# Altium footprint library 600VDCDC.PcbLib: 39 footprints (part 1 of 3)
Each footprint in its own frame and in the unit in brackets; x right, y up, seen from the top. Pads: shape width x height; smd on the part's side, far side on the other; paste and mask are expansions set on the pad; w line width, h text height; cw(c..) or ccw(c..) is an arc to the next point about the centre after c.
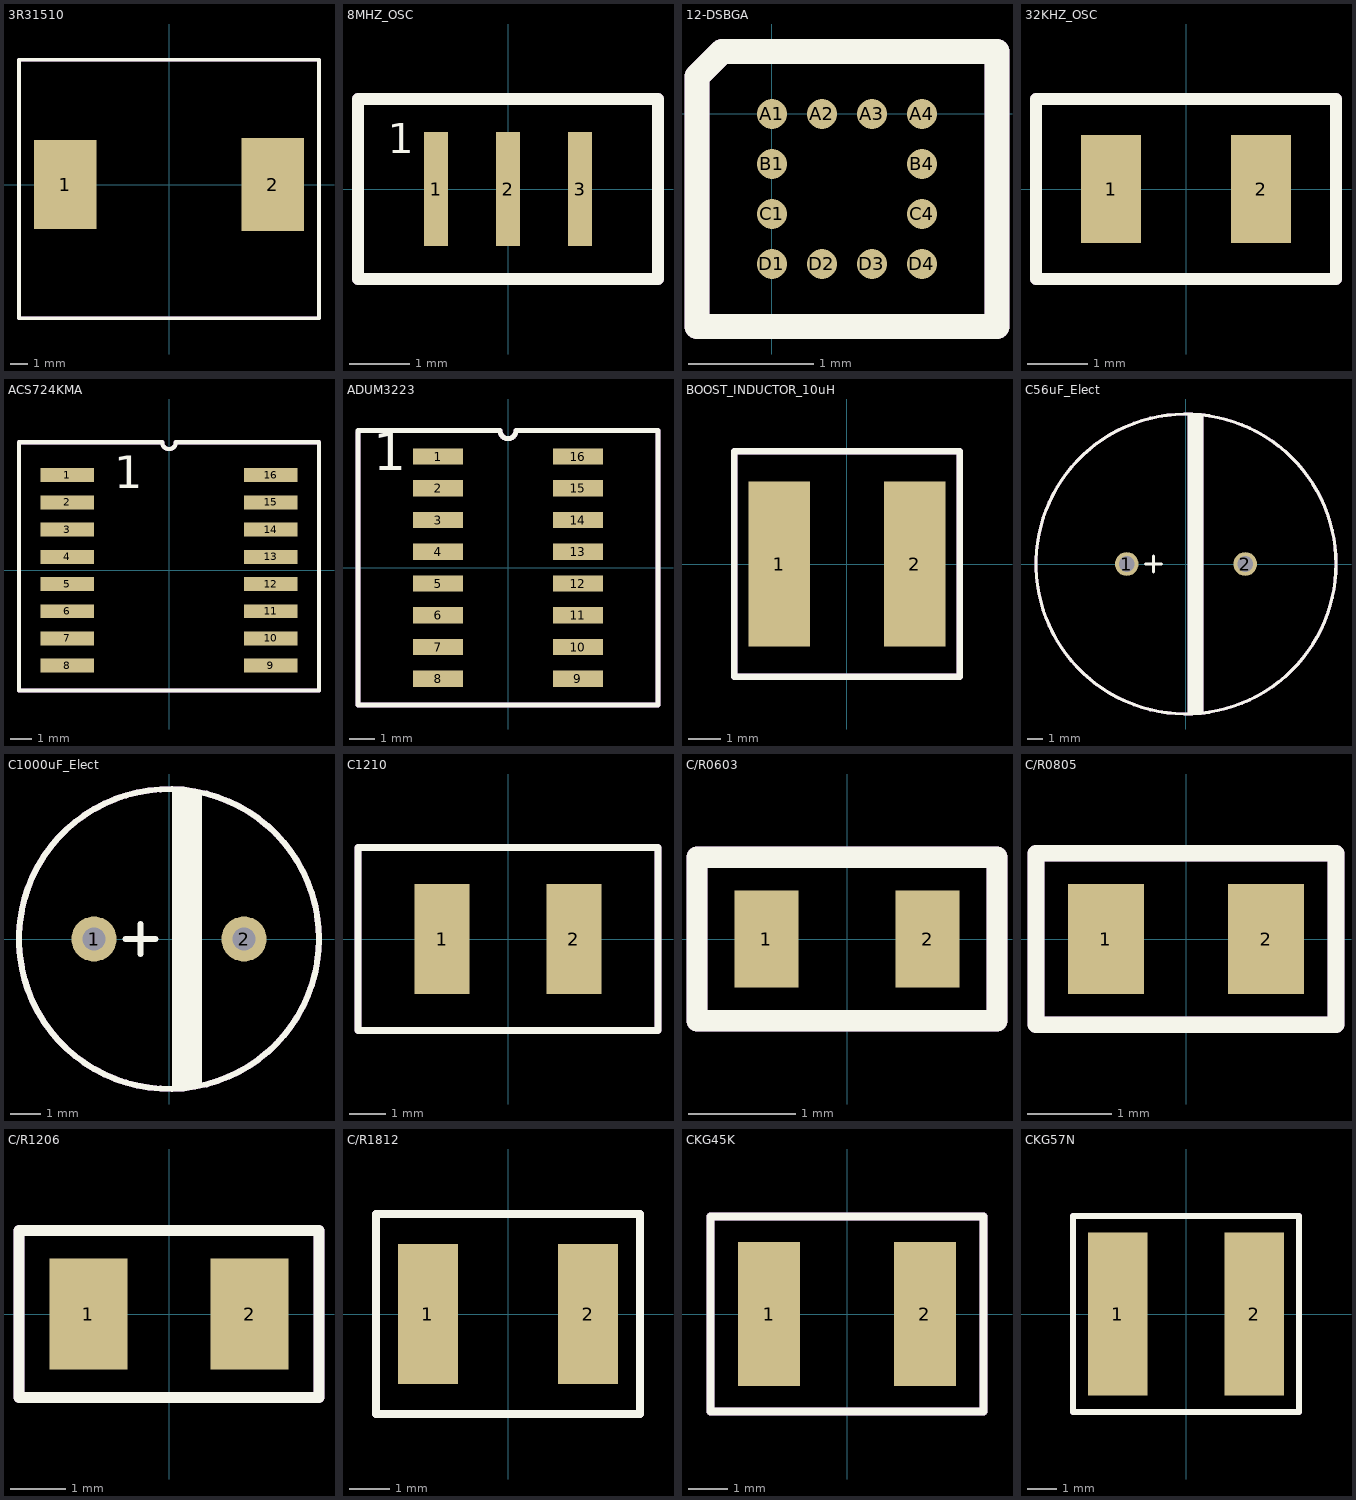
[diagram p0: the footprints below, top view; thin cyan lines are the x and y axes]

## 3R31510 [mm]
pads (2):
  rect 3.5x5 smd: 1(-5.8,0)
  rect 3.5x5.2 smd: 2(5.8,0)
Top Overlay:
  lines w0.2: -8.4,-7.5 -8.4,7 8.4,7 8.4,-7.5 -8.4,-7.5
Mechanical 29:
  lines w0.2: -8.4,-7.5 8.4,-7.5 8.4,7 -8.4,7 -8.4,-7.5
  text ".Designator" at -4.7,4.1 h1
3D body "SRP1265A series.stp": height 6.32, standoff 0.01, extent -6.4,-6.4 6.5,6.1

## 8MHZ_OSC [mm]
pads (3):
  rect 0.4x1.9 smd: 1(-1.2,0) 2(0,0) 3(1.2,0)
Top Overlay:
  lines w0.2: -2.5,-1.5 -2.5,1.5 2.5,1.5 2.5,-1.5 -2.5,-1.5
  text "1" at -2,0.6 h0.5
Mechanical 29:
  lines w0.2: -2.5,-1.5 2.5,-1.5 2.5,1.5 -2.5,1.5 -2.5,-1.5
  text "1" at -2,0.6 h0.5
  text ".Designator" at -2.1,-0.8 h0.6
3D body "8MHZ_OSC.stp": height 0.96, standoff 0.01, extent -1.6,-0.65 1.6,0.65

## 12-DSBGA [mm]
pads (12):
  round 0.24 smd: A1(0,0) A2(0.4,0) A3(0.8,0) A4(1.2,0) B1(0,-0.4) B4(1.2,-0.4) C1(0,-0.8) C4(1.2,-0.8) D1(0,-1.2) D2(0.4,-1.2) D3(0.8,-1.2) D4(1.2,-1.2)
Top Overlay:
  lines w0.2: -0.6,-1.7 -0.6,0.3 -0.4,0.5 1.8,0.5 1.8,-1.7 -0.6,-1.7
Mechanical 29:
  lines w0.2: -0.6,-1.7 1.8,-1.7 1.8,0.5 -0.4,0.5 -0.6,0.3 -0.6,-1.7
  text ".Designator" at -0.2,-1.3 h0.6
3D body "TMP12FLA.stp": height 0.58, standoff -0.1, extent -0.35,-1.486 1.55,0.286

## 32KHZ_OSC [mm]
pads (2):
  rect 1x1.8 smd: 1(-1.25,0) 2(1.25,0)
Top Overlay:
  lines w0.2: -2.5,-1.5 2.5,-1.5 2.5,1.5 -2.5,1.5 -2.5,-1.5
Mechanical 29:
  lines w0.2: -2.5,-1.5 -2.5,1.5 2.5,1.5 2.5,-1.5 -2.5,-1.5
  text ".Designator" at -2.2,-1 h0.6
3D body "User Library-NDK_NX3215SA.step": height 0.8, standoff 0, extent -1.6,-0.75 1.6,0.75

## ACS724KMA [mm]
pads (16):
  rect 2.5x0.65 smd: 1(-4.75,4.445) 2(-4.75,3.175) 3(-4.75,1.905) 4(-4.75,0.635) 5(-4.75,-0.635) 6(-4.75,-1.905) 7(-4.75,-3.175) 8(-4.75,-4.445) 9(4.75,-4.445) 10(4.75,-3.175) 11(4.75,-1.905) 12(4.75,-0.635) 13(4.75,0.635) 14(4.75,1.905) 15(4.75,3.175) 16(4.75,4.445)
Top Overlay:
  lines w0.2: -7,-5.6 -7,5.98 -0.318,5.98 ccw(c0,5.98) 0.318,5.98 7,5.98 7,-5.6 -7,-5.6
  text "1" at -2.55,3.845 h1.52
Mechanical 29:
  lines w0.2: -7,-5.6 7,-5.6 7,5.98 0.318,5.98 cw(c0,5.98) -0.318,5.98 -7,5.98 -7,-5.6
  text ".Designator" at 0.5,-5.2 h1
  text "1" at -2.55,3.845 h1.52
3D body "User Library-SOIC16_Wide_JEDEC_MS-013AA.step": height 2.66, standoff 0.01, extent -5.315,-5.25 5.315,5.25

## ADUM3223 [mm]
pads (16):
  rect 2x0.65 smd: 1(-2.8,4.445) 2(-2.8,3.175) 3(-2.8,1.905) 4(-2.8,0.635) 5(-2.8,-0.635) 6(-2.8,-1.905) 7(-2.8,-3.175) 8(-2.8,-4.445) 9(2.8,-4.445) 10(2.8,-3.175) 11(2.8,-1.905) 12(2.8,-0.635) 13(2.8,0.635) 14(2.8,1.905) 15(2.8,3.175) 16(2.8,4.445)
Top Overlay:
  lines w0.2: -6,-5.5 6,-5.5 6,5.48 0.318,5.48 cw(c0,5.48) -0.318,5.48 -6,5.48 -6,-5.5
  text "1" at -5.4,3.9 h1.52
Mechanical 29:
  lines w0.2: -6,-5.5 6,-5.5 6,5.48 0.318,5.48 cw(c0,5.48) -0.318,5.48 -5.92,5.48 -6,5.4 -6,-5.5
  text "1" at -5.4,3.9 h1.52
  text ".Designator" at 0.4,-5.2 h1
3D body "User Library-SOIC-16-2.step": height 1.75, standoff 0, extent -3,-5 3,5

## BOOST_INDUCTOR_10uH [mm]
pads (2):
  rect 1.9x5.1 smd: 1(-2.1,0) 2(2.1,0)
Top Overlay:
  lines w0.2: -3.5,-3.5 -3.5,3.5 3.5,3.5 3.5,-3.5 -3.5,-3.5
Mechanical 29:
  lines w0.2: -3.5,-3.5 3.5,-3.5 3.5,3.5 -3.5,3.5 -3.5,-3.5
  text ".Designator" at 0.2,-3.1 h0.6
3D body "vls6045ex.step": height 4.51, standoff 0.01, extent -3,-3 3,3

## C56uF_Elect [mm]
pads (2):
  round 1.5 hole 1: 1(-3.75,0) 2(3.75,0)
Top Overlay:
  circle w0.2: c0,0 r9.5
  rectangle: 0.1,-9.4 1.1,9.4
  lines w0.2: -2.558,0 -1.542,0 ; -2.05,-0.508 -2.05,0.508
Mechanical 29:
  circle w0.2: c0,0 r9.5
  rectangle: 0.1,-9.4 1.1,9.4
  text ".Designator" at 5.9,5.4 h1
3D body "CAP_EEUFC_18X20.stp": height 22.03, standoff -5.19, extent -9.275,-9.246 9.242,9.246

## C1000uF_Elect [mm]
pads (2):
  round 1.5 hole 0.75: 1(-2.5,0) 2(2.5,0)
Top Overlay:
  circle w0.2: c0,0 r5
  rectangle: 0.1,-4.9 1.1,4.9
  lines w0.2: -1.458,0 -0.442,0 ; -0.95,-0.508 -0.95,0.508
Mechanical 29:
  circle w0.2: c0,0 r5
  rectangle: 0.1,-4.9 1.1,4.9
  text ".Designator" at -1.3,4.2 h1
3D body "1000uF.stp": height 13.01, standoff -18.99, extent -5,-5 5,5

## C1210 [mm]
pads (2):
  rect 1.5x3 smd: 1(-1.8,0) 2(1.8,0)
Top Overlay:
  lines w0.2: -4.1,-2.5 -4.1,0 -4.1,2.5 4.1,2.5 4.1,-2.5 -4.1,-2.5
Mechanical 29:
  lines w0.2: -4.1,-2.5 4.1,-2.5 4.1,2.5 -4.1,2.5 -4.1,0 -4.1,-2.5
  text ".Designator" at -3.6,-1.7 h1
3D body "c1210x332jcgactu.stp": height 2.81, standoff 0.01, extent -1.85,-1.4 1.85,1.5

## C/R0603 [mm]
pads (2):
  rect 0.6x0.9 smd: 1(-0.75,0) 2(0.75,0)
Top Overlay:
  lines w0.2: -1.397,-0.762 1.397,-0.762 1.397,0.762 -1.397,0.762 -1.397,-0.762
Mechanical 29:
  lines w0.2: -1.397,-0.762 1.397,-0.762 1.397,0.762 -1.397,0.762 -1.397,-0.762
  text ".Designator" at -1.2,-0.4 h0.6
3D body "R0603.step": height 0.81, standoff 0.01, extent -0.8,-0.425 0.8,0.415

## C/R0805 [mm]
pads (2):
  rect 0.9x1.3 smd: 1(-0.95,0) 2(0.95,0)
Top Overlay:
  lines w0.2: 1.778,-1.016 -1.778,-1.016 -1.778,1.016 1.778,1.016 1.778,-0.976
Mechanical 29:
  lines w0.2: -1.778,-1.016 -1.778,1.016 1.778,1.016 1.778,-1.016 -1.778,-1.016
  text ".Designator" at -1.5,-0.6 h0.6
3D body "CAPC2012X95N EIA 0805.step": height 0.96, standoff 0.01, extent -0.984,-0.6 1.016,0.6

## C/R1206 [mm]
pads (2):
  rect 1.4x2 smd: 1(-1.45,0) 2(1.45,0)
Top Overlay:
  lines w0.2: -2.7,-1.5 -2.7,1.5 2.7,1.5 2.7,-1.5 -2.7,-1.5
Mechanical 29:
  lines w0.2: -2.7,-1.5 2.7,-1.5 2.7,1.5 -2.7,1.5 -2.7,-1.5
  text ".Designator" at -2.4,-1 h0.6
3D body "CAP_ECPU_H2-M.stp": height 1.19, standoff 0, extent -1.702,-0.902 1.702,0.902

## C/R1812 [mm]
pads (2):
  rect 1.5x3.5 smd: 1(-2,0) 2(2,0)
Top Overlay:
  lines w0.2: -3.302,-2.5 -3.302,2.5 3.302,2.5 3.302,-2.5 -3.302,-2.5
Mechanical 29:
  lines w0.2: -3.302,-2.5 3.302,-2.5 3.302,2.5 -3.302,2.5 -3.302,-2.5
  text ".Designator" at -2.9,-1.8 h1
3D body "User Library-CAPC4532X13.step": height 1.3, standoff 0, extent -2.25,-1.6 2.25,1.6

## CKG45K [mm]
pads (2):
  rect 1.6x3.7 smd: 1(-2,0) 2(2,0)
Top Overlay:
  lines w0.2: -3.5,-2.5 -3.5,0 -3.5,2.5 3.5,2.5 3.5,-2.5 -3.5,-2.5
Mechanical 29:
  lines w0.2: -3.5,-2.5 3.5,-2.5 3.5,2.5 -3.5,2.5 -3.5,0 -3.5,-2.5
  text ".Designator" at -3.1,-1.9 h1
3D body "CAP_5035-L.stp": height 3.35, standoff 0, extent -2.756,-1.994 2.756,1.994

## CKG57N [mm]
pads (2):
  rect 2x5.5 smd: 1(-2.3,0) 2(2.3,0)
Top Overlay:
  lines w0.2: -3.8,-3.3 3.8,-3.3 3.8,3.3 -3.8,3.3 -3.8,-3.3
Mechanical 29:
  lines w0.2: -3.8,-3.3 -3.8,3.3 3.8,3.3 3.8,-3.3 -3.8,-3.3
  text ".Designator" at -3.5,-2.7 h1
3D body "CAP_6050-M.stp": height 3.35, standoff 0, extent -3.251,-2.756 3.251,2.756